# EAGLE library part ICM-20948 (library icm-20948)
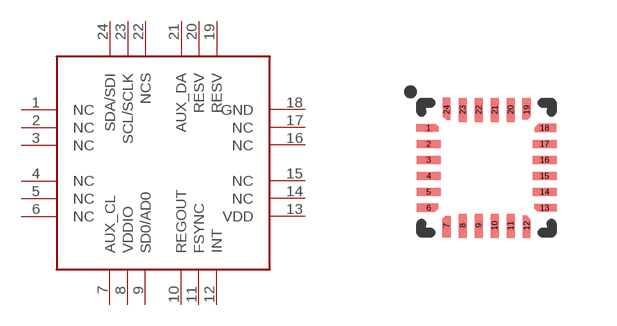
[diagram p0: symbol with the pads of QFN24_3X3; footprint QFN24_3X3]

Designator prefix -

## ICM-20948 (MPN: ICM-20948)  [QFN24_3X3]
1  NC  nc
2  NC  nc
3  NC  nc
4  NC  nc
5  NC  nc
6  NC  nc
7  AUX_CL
8  VDDIO  pwr
9  SD0/AD0
10  REGOUT
11  FSYNC  in
12  INT  out
13  VDD  pwr
14  NC  nc
15  NC  nc
16  NC  nc
17  NC  nc
18  GND  pwr
19  RESV
20  RESV  pwr
21  AUX_DA
22  NCS
23  SCL/SCLK
24  SDA/SDI

## Footprint QFN24_3X3 (pad centres in mm)
smd 0.2 x 0.2: 1 -1.45,1; 6 -1.45,-1; 7 -1,-1.45; 12 1,-1.45; 13 1.45,-1; 18 1.45,1; 19 1,1.45; 24 -1,1.45
smd 0.6 x 0.2: 2 -1.45,0.6; 3 -1.45,0.2; 4 -1.45,-0.2; 5 -1.45,-0.6; 14 1.45,-0.6; 15 1.45,-0.2; 16 1.45,0.2; 17 1.45,0.6
smd 0.2 x 0.6: 8 -0.6,-1.45; 9 -0.2,-1.45; 10 0.2,-1.45; 11 0.6,-1.45; 20 0.6,1.45; 21 0.2,1.45; 22 -0.2,1.45; 23 -0.6,1.45